# Altium schematic symbol library LP2992AIM5-3.3.SchLib: 1 symbol
Pins are listed as number, name and electrical type; pins without a type are passive.

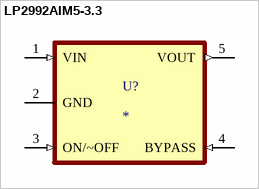
[diagram p0: symbol LP2992AIM5-3.3]

## LP2992AIM5-3.3
designator U?
MP: LP2992AIM5-3.3; Package: None; Price: None; Value: *; Availability: Unavailable
footprint SOT95P280X145-5N
pins: 1 VIN (in), 2 GND (power), 3 ON/~OFF (in), 4 BYPASS (in), 5 VOUT (out)